# EAGLE library part MICROSD (library teensylu)
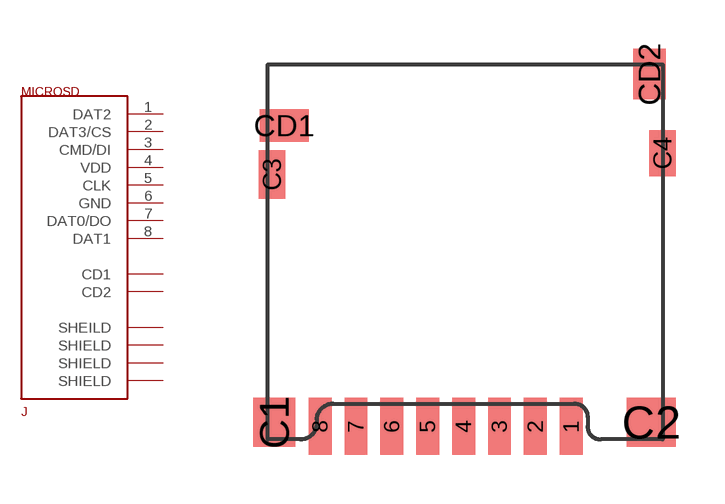
[diagram p4: symbol with the pads of AMPHENOL-MICROSD; footprint AMPHENOL-MICROSD]

Designator prefix J

## MICROSD (MANUFACTURER: Amphenol; MANUFACTURER_PART_NUMBER: 114-00841-68)  [AMPHENOL-MICROSD]
1  DAT2
2  DAT3/CS
3  CMD/DI  in
4  VDD  pwr
5  CLK  in
6  GND  sup
7  DAT0/DO
8  DAT1
C1  SHEILD
C2  SHIELD
C3  SHIELD
C4  SHIELD
CD1  CD1
CD2  CD2

## Footprint AMPHENOL-MICROSD (pad centres in mm)
smd 0.7 x 1.75: 1 3.636,-5.842; 2 2.536,-5.842; 3 1.436,-5.842; 4 0.336,-5.842; 5 -0.764,-5.842; 6 -1.864,-5.842; 7 -2.964,-5.842; 8 -4.064,-5.842
smd 1.29 x 1.5: C1 -5.464,-5.717
smd 1.5 x 1.5: C2 6.086,-5.717
smd 0.8 x 1.5: C3 -5.539,1.883
smd 0.8 x 1.4: C4 6.436,2.533
smd 1.5 x 1: CD1 -5.164,3.383
smd 1 x 1.55: CD2 6.036,4.958